# Altium footprint library Connectors.PcbLib: 15 footprints
Each footprint in its own frame and in the unit in brackets; x right, y up, seen from the top. Pads: shape width x height; smd on the part's side, far side on the other; paste and mask are expansions set on the pad; w line width, h text height; cw(c..) or ccw(c..) is an arc to the next point about the centre after c.
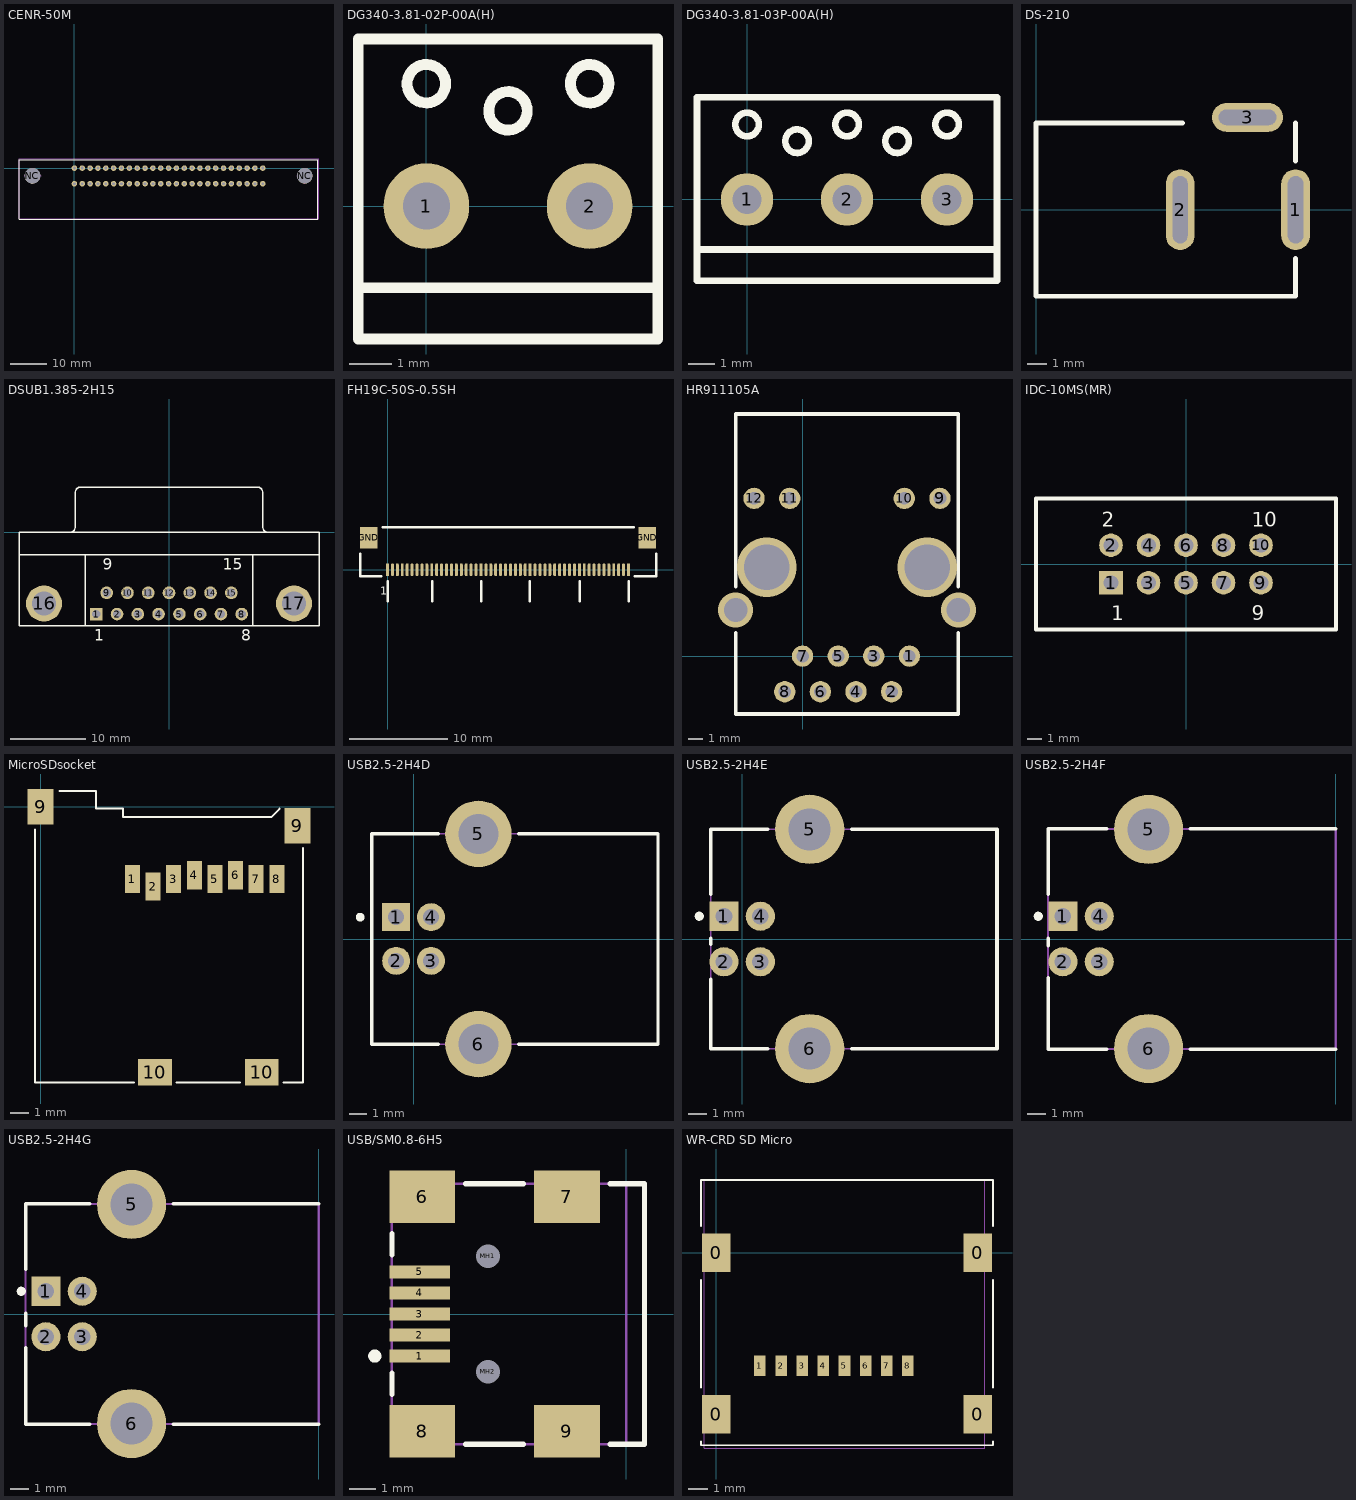
[diagram p0: the footprints below, top view; thin cyan lines are the x and y axes]

## CENR-50M [mil] "Centronic 50pin, PCB mount, right angle"
pads (52):
  round 60 hole 30: 1(0,0) 2(85.04,0) 3(170.08,0) 4(255.12,0) 5(340.16,0) 6(425.2,0) 7(510.24,0) 8(595.28,0) 9(680.32,0) 10(765.35,0) 11(850.39,0) 12(935.43,0) 13(1020.47,0) 14(1105.51,0) 15(1190.55,0) 16(1275.59,0) 17(1360.63,0) 18(1445.67,0) 19(1530.71,0) 20(1615.75,0) 21(1700.79,0) 22(1785.83,0) 23(1870.87,0) 24(1955.91,0) 25(2040.94,0) 26(0,-168.9) 27(85.04,-168.9) 28(170.08,-168.9) 29(255.12,-168.9) 30(340.16,-168.9) 31(425.2,-168.9) 32(510.24,-168.9) 33(595.28,-168.9) 34(680.32,-168.9) 35(765.35,-168.9) 36(850.39,-168.9) 37(935.43,-168.9) 38(1020.47,-168.9) 39(1105.51,-168.9) 40(1190.55,-168.9) 41(1275.59,-168.9) 42(1360.63,-168.9) 43(1445.67,-168.9) 44(1530.71,-168.9) 45(1615.75,-168.9) 46(1700.79,-168.9) 47(1785.83,-168.9) 48(1870.87,-168.9) 49(1955.91,-168.9) 50(2040.94,-168.9)
  round 168.9 hole 168.9 unplated: NC(-453.94,-84.45) NC(2494.88,-84.45)
Top Overlay:
  lines w5: -597.64,-552.95 2494.88,-552.95 2638.58,-552.95 2638.58,-84.45 2638.58,92.72 2494.88,92.72 -597.64,92.72 -597.64,-552.95
Mechanical 15:
  lines w1.97: -540.55,-84.45 -453.94,-84.45 ; -453.94,-171.06 -453.94,-84.45 ; -453.94,-3.94 -453.94,-84.45 ; -359.45,-84.45 -453.94,-84.45 ; 2409.45,-84.45 2494.88,-84.45 ; 2494.88,-169.88 2494.88,-84.45 ; 2494.88,-5.12 2494.88,-84.45 ; 2565.55,-84.45 2494.88,-84.45 ; -600,-550 2650,-550 2650,100 -600,100 -600,-550
3D body "14267.STEP": height 610.72, standoff -187.18, extent -720.31,-1547.87 2761.25,90.35

## DG340-3.81-02P-00A(H) [mm] "Terminal block"
height 8.4
pads (2):
  round 2 hole 1.1: 1(0,0) 2(3.81,0)
Top Overlay:
  circle w0.254: c0,2.857 r0.449
  circle w0.254: c1.905,2.222 r0.449
  circle w0.254: c3.81,2.857 r0.449
  lines w0.25: -1.587,-1.905 5.397,-1.905 ; -1.587,-3.1 5.397,-3.1 5.397,3.9 -1.587,3.9 -1.587,-3.1

## DG340-3.81-03P-00A(H) [mm]
pads (3):
  round 2 hole 1.1: 1(0,0) 2(3.81,0) 3(7.62,0)
Top Overlay:
  circle w0.254: c0,2.857 r0.449
  circle w0.254: c1.905,2.222 r0.449
  circle w0.254: c3.81,2.857 r0.449
  circle w0.254: c5.715,2.222 r0.449
  circle w0.254: c7.62,2.857 r0.449
  lines w0.25: -1.905,-1.905 9.525,-1.905 ; -1.905,-3.1 9.525,-3.1 9.525,3.9 -1.905,3.9 -1.905,-3.1

## DS-210 [mm]
pads (3):
  oval 1.5x4.2 hole 0.8 slot 3.5 at 90 deg: 1(13.5,0)
  oval 1.5x4.2 hole 0.762 slot 3.5 at 90 deg: 2(7.5,0)
  oval 3.7x1.5 hole 0.8 slot 3 at 0 deg: 3(11,4.8)
Top Overlay:
  lines w0.254: 7.62,4.5 0,4.5 0,0 0,-4.5 13.5,-4.5 13.5,-2.54 ; 13.5,2.54 13.5,4.5

## DSUB1.385-2H15 [mm] "Connector; D Subminiature; 15 Position; Right Angle; Pitch 1.385 mm"
height 12.75
pads (17):
  rect 1.69x1.69 hole 1.09: 1(-9.695,-10.92)
  round 1.69 hole 1.09: 2(-6.925,-10.92) 3(-4.155,-10.92) 4(-1.385,-10.92) 5(1.385,-10.92) 6(4.155,-10.92) 7(6.925,-10.92) 8(9.695,-10.92) 9(-8.31,-8.08) 10(-5.54,-8.08) 11(-2.77,-8.08) 12(0,-8.08) 13(2.77,-8.08) 14(5.54,-8.08) 15(8.31,-8.08)
  round 4.8 hole 3.18: 16(-16.66,-9.5) 17(16.66,-9.5)
Top Overlay:
  lines w0.2: -20,-3 20,-3 ; -13.195,0.005 ccw(c-13.195,0.7) -12.5,0.7 -12.5,5.3 ; -12.495,5.305 cw(c-11.8,5.305) -11.8,6 11.8,6 cw(c11.8,5.305) 12.495,5.305 ; -11.14,-12.5 -11.14,-3 ; 11.14,-12.5 11.14,-3 ; 12.5,5.3 12.5,0.7 ccw(c13.195,0.7) 13.195,0.005 ; -20,-12.5 -20,0 20,0 20,-12.5 -20,-12.5
  text "1" at -9.945,-14.475 h1.5
  text "8" at 9.652,-14.475 h1.5
  text "15" at 7.185,-4.975 h1.5
  text "9" at -8.81,-4.975 h1.5
3D body "DBPN1M-15.STEP": height 12.55, standoff -4.82, extent -19.515,-12.954 19.515,6.22

## FH19C-50S-0.5SH [mm]
pads (52):
  rect 0.3x1.3 smd: 1(0,0) 10(4.5,0) 20(9.5,0) 30(14.5,0) 40(19.5,0) 50(24.5,0)
  oval 0.3x1.3 smd: 2(0.5,0) 3(1,0) 4(1.5,0) 5(2,0) 6(2.5,0) 7(3,0) 8(3.5,0) 9(4,0) 11(5,0) 12(5.5,0) 13(6,0) 14(6.5,0) 15(7,0) 16(7.5,0) 17(8,0) 18(8.5,0) 19(9,0) 21(10,0) 22(10.5,0) 23(11,0) 24(11.5,0) 25(12,0) 26(12.5,0) 27(13,0) 28(13.5,0) 29(14,0) 31(15,0) 32(15.5,0) 33(16,0) 34(16.5,0) 35(17,0) 36(17.5,0) 37(18,0) 38(18.5,0) 39(19,0) 41(20,0) 42(20.5,0) 43(21,0) 44(21.5,0) 45(22,0) 46(22.5,0) 47(23,0) 48(23.5,0) 49(24,0)
  rect 1.8x2.2 smd: GND(-1.9,3.25) GND(26.4,3.25)
Top Overlay:
  lines w0.254: -2.794,1.651 -2.794,-0.635 -0.635,-0.635 ; -0.508,4.318 25.019,4.318 ; 0,-3.175 0,-1.143 ; 4.572,-3.175 4.572,-1.143 ; 9.525,-3.175 9.525,-1.143 ; 14.478,-3.175 14.478,-1.143 ; 19.558,-3.175 19.558,-1.143 ; 24.511,-3.175 24.511,-1.143 ; 25.146,-0.635 27.305,-0.635 27.305,1.651
  text "1" at -0.762,-2.54 h0.8

## HR911105A [mil] "Ethernet connector"
height 531.5
pads (12):
  round 60 hole 35.43: 1(300,0) 2(250,-100) 3(200,0) 4(150,-100) 5(100,0) 6(50,-100) 7(0,0) 8(-50,-100) 9(385.83,442.91) 10(285.83,442.91) 11(-36.22,442.91) 12(-136.22,442.91)
via -100.39,250 diameter 167.32 hole 127.95
via 350,250 diameter 167.32 hole 127.95
via -187.8,129.92 diameter 98.43 hole 66.93
via 437.4,129.92 diameter 98.43 hole 66.93
Top Overlay:
  lines w10: -187.8,65 -187.8,-162.6 437.4,-162.6 437.4,65 ; -187.8,195 -187.8,592.2 -187.8,679.92 437.4,679.92 437.4,195 ; 365,-162.6 379.8,-162.6

## IDC-10MS(MR) [mm]
pads (10):
  rect 1.6x1.6 hole 1: 1(-5.08,-1.27)
  round 1.6 hole 1: 2(-5.08,1.27) 3(-2.54,-1.27) 4(-2.54,1.27) 5(0,-1.27) 6(0,1.27) 7(2.54,-1.27) 8(2.54,1.27) 9(5.08,-1.27) 10(5.08,1.27)
Top Overlay:
  lines w0.254: -10.16,-4.445 -10.16,4.445 10.16,4.445 10.16,-4.445 -10.16,-4.445
  text "2" at -5.715,2.54 h1
  text "10" at 4.445,2.54 h1
  text "9" at 4.445,-3.81 h1
  text "1" at -5.08,-3.81 h1
3D body "IDC-10MS.STEP": height 9.41, standoff -3.29, extent -10.2,-4.905 10.2,4.445

## MicroSDsocket [mm] "SD-card socket Micro"
pads (12):
  rect 0.8x1.5 smd: 1(4.9,-3.85) 2(6,-4.25) 3(7.1,-3.85) 4(8.2,-3.65) 5(9.3,-3.85) 6(10.4,-3.65) 7(11.5,-3.85) 8(12.6,-3.85)
  rect 1.4x1.9 smd: 9(0,0) 9(13.7,-1)
  rect 1.8x1.4 smd: 10(6.1,-14.15) 10(11.8,-14.15)
Top Overlay:
  lines w0.1: -0.3,-1.2 -0.3,-14.7 5,-14.7 ; 1,0.85 2.95,0.85 2.95,-0.1 4.4,-0.1 4.4,-0.55 12.3,-0.55 12.75,-0.1 ; 7.25,-14.7 10.65,-14.7 ; 12.95,-14.7 14,-14.7 14,-2.2
3D body "693071010811.stp": height 1.83, standoff -0.07, extent -0.15,-14.55 13.85,0.66

## USB2.5-2H4D [mm] "Connector; USB1.1, Type B, Thru-Hole; 4 Position; Right Angle"
height 11.1
pads (6):
  rect 1.6x1.6 hole 0.92: 1(-1,1.25)
  round 1.6 hole 0.92: 2(-1,-1.25) 3(1,-1.25) 4(1,1.25)
  round 3.8 hole 2.3: 5(3.71,6.02) 6(3.71,-6.02)
Top Overlay:
  circle w0.25: c-3.06,1.25 r0.125
  lines w0.2: 1.41,-6.02 -2.41,-6.02 -2.41,6.02 1.41,6.02 ; 6.01,-6.02 13.99,-6.02 13.99,6.02 6.01,6.02
Mechanical 13:
  lines w0.1: -2.41,-6.02 -2.41,6.02 13.99,6.02 13.99,-6.02 -2.41,-6.02
3D body: height 11.1, standoff 0, extent -2.41,-6.02 13.99,6.02

## USB2.5-2H4E [mm] "Connector; USB1.1, Type B, Thru-Hole; 4 Position; Right Angle"
height 11.5
pads (6):
  rect 1.6x1.6 hole 0.92: 1(-1,1.25)
  round 1.6 hole 0.92: 2(-1,-1.25) 3(1,-1.25) 4(1,1.25)
  round 3.8 hole 2.3: 5(3.71,6.02) 6(3.71,-6.02)
Top Overlay:
  circle w0.25: c-2.35,1.25 r0.125
  lines w0.2: -1.72,-2.21 -1.72,-6.02 1.41,-6.02 ; -1.72,-0.29 -1.72,0.05 ; -1.72,2.45 -1.72,6.02 1.41,6.02 ; 6.01,-6.02 13.99,-6.02 13.99,6.02 6.01,6.02
Mechanical 13:
  lines w0.1: -1.72,-6.02 13.99,-6.02 13.99,6.02 -1.72,6.02 -1.72,-6.02
3D body: height 11.5, standoff 0, extent -1.72,-6.02 13.99,6.02

## USB2.5-2H4F [mm] "Connector; USB1.1, Type B, Thru-Hole; 4 Position; Right Angle"
height 10.95
pads (6):
  rect 1.6x1.6 hole 0.92: 1(-15.01,1.25)
  round 1.6 hole 0.92: 2(-15.01,-1.25) 3(-13.01,-1.25) 4(-13.01,1.25)
  round 3.8 hole 2.3: 5(-10.3,6.02) 6(-10.3,-6.02)
Top Overlay:
  circle w0.25: c-16.36,1.25 r0.125
  lines w0.2: -15.82,-2.14 -15.82,-6.05 -12.6,-6.05 ; -15.82,-0.36 -15.82,0.05 ; -15.82,2.45 -15.82,6.05 -12.6,6.05 ; -8,-6.05 -0.02,-6.05 ; -8,6.05 -0.02,6.05
Mechanical 1:
  lines w0.1: 0,-6.05 0,6.05
  text "PCB Edge" at -0.325,-5.651 h0.25
Mechanical 13:
  lines w0.1: -15.82,-6.05 -15.82,6.05 -0.02,6.05 -0.02,-6.05 -15.82,-6.05
3D body: height 10.95, standoff 0, extent -15.82,-6.05 -0.02,6.05

## USB2.5-2H4G [mm] "Connector; USB1.1, Type B, Thru-Hole; 4 Position; Right Angle"
height 10.95
pads (6):
  rect 1.6x1.6 hole 0.92: 1(-15.01,1.25)
  round 1.6 hole 0.92: 2(-15.01,-1.25) 3(-13.01,-1.25) 4(-13.01,1.25)
  round 3.8 hole 2.3: 5(-10.3,6.02) 6(-10.3,-6.02)
Top Overlay:
  circle w0.25: c-16.36,1.25 r0.125
  lines w0.2: -16.12,-1.85 -16.12,-6.05 -12.6,-6.05 ; -16.12,-0.65 -16.12,0.05 ; -16.12,2.45 -16.12,6.05 -12.6,6.05 ; -8,-6.05 -0.02,-6.05 ; -8,6.05 -0.02,6.05
Mechanical 1:
  lines w0.1: 0,-6.05 0,6.05
  text "PCB Edge" at -0.325,-5.651 h0.25
Mechanical 13:
  lines w0.1: -16.12,-6.05 -16.12,6.05 -0.02,6.05 -0.02,-6.05 -16.12,-6.05
3D body: height 10.95, standoff 0, extent -16.12,-6.05 -0.02,6.05

## USB/SM0.8-6H5 [mm] "Connector; USB2.0, Type B, SM; 5 Position; Right Angle"
height 3.9
pads (11):
  rect 2.3x0.5 smd: 1(-7.85,-1.6) 2(-7.85,-0.8) 3(-7.85,0) 4(-7.85,0.8) 5(-7.85,1.6)
  rect 2.5x2 smd: 6(-7.75,4.45) 7(-2.25,4.45) 8(-7.75,-4.45) 9(-2.25,-4.45)
  round 0.6 hole 0.9 unplated: MH1(-5.25,2.2) MH2(-5.25,-2.2)
Top Overlay:
  circle w0.25: c-9.55,-1.6 r0.125
  lines w0.2: -8.9,-3.05 -8.9,-2.25 ; -8.9,2.25 -8.9,3.05 ; -6.1,-4.95 -3.9,-4.95 ; -6.1,4.95 -3.9,4.95 ; -0.6,-4.95 0.7,-4.95 0.7,4.95 -0.6,4.95
Mechanical 1:
  lines w0.1: 0,-4.95 0,4.95
  text "PCB Edge" at 0.432,-4.036 h0.25
Mechanical 13:
  lines w0.1: -8.9,-4.95 -8.9,4.95 0.7,4.95 0.7,-4.95 -8.9,-4.95
3D body: height 3.9, standoff 0, extent -8.9,-4.95 0.7,4.95

## WR-CRD SD Micro [mm] "WR-CRD SD Micro Header 8"
pads (12):
  rect 1.5x2 smd: 0(0,-8.4) 0(0,0) 0(13.6,-8.4) 0(13.6,0)
  rect 0.6x1.05 smd: 1(2.27,-5.87) 2(3.37,-5.87) 3(4.47,-5.87) 4(5.57,-5.87) 5(6.67,-5.87) 6(7.77,-5.87) 7(8.87,-5.87) 8(9.97,-5.87)
Top Overlay:
  lines w0.1: -0.8,-9.8 -0.8,-10 14.4,-10 14.4,-9.8 ; -0.8,-7 -0.8,-1.4 ; -0.8,1.4 -0.8,3.8 14.4,3.8 14.4,1.4 ; 14.4,-7 14.4,-1.4
Mechanical 15:
  lines w0.05: -0.635,-10.16 13.97,-10.16 13.97,3.81 -0.635,3.81 -0.635,-10.16
3D body "Card Connector SD Micro.stp": height 1.77, standoff 0, extent -0.5,-9.9 14.1,3.8